# Altium footprint library EC20.PcbLib: 17 footprints (part 1 of 2)
Each footprint in its own frame and in the unit in brackets; x right, y up, seen from the top. Pads: shape width x height; smd on the part's side, far side on the other; paste and mask are expansions set on the pad; w line width, h text height; cw(c..) or ccw(c..) is an arc to the next point about the centre after c.
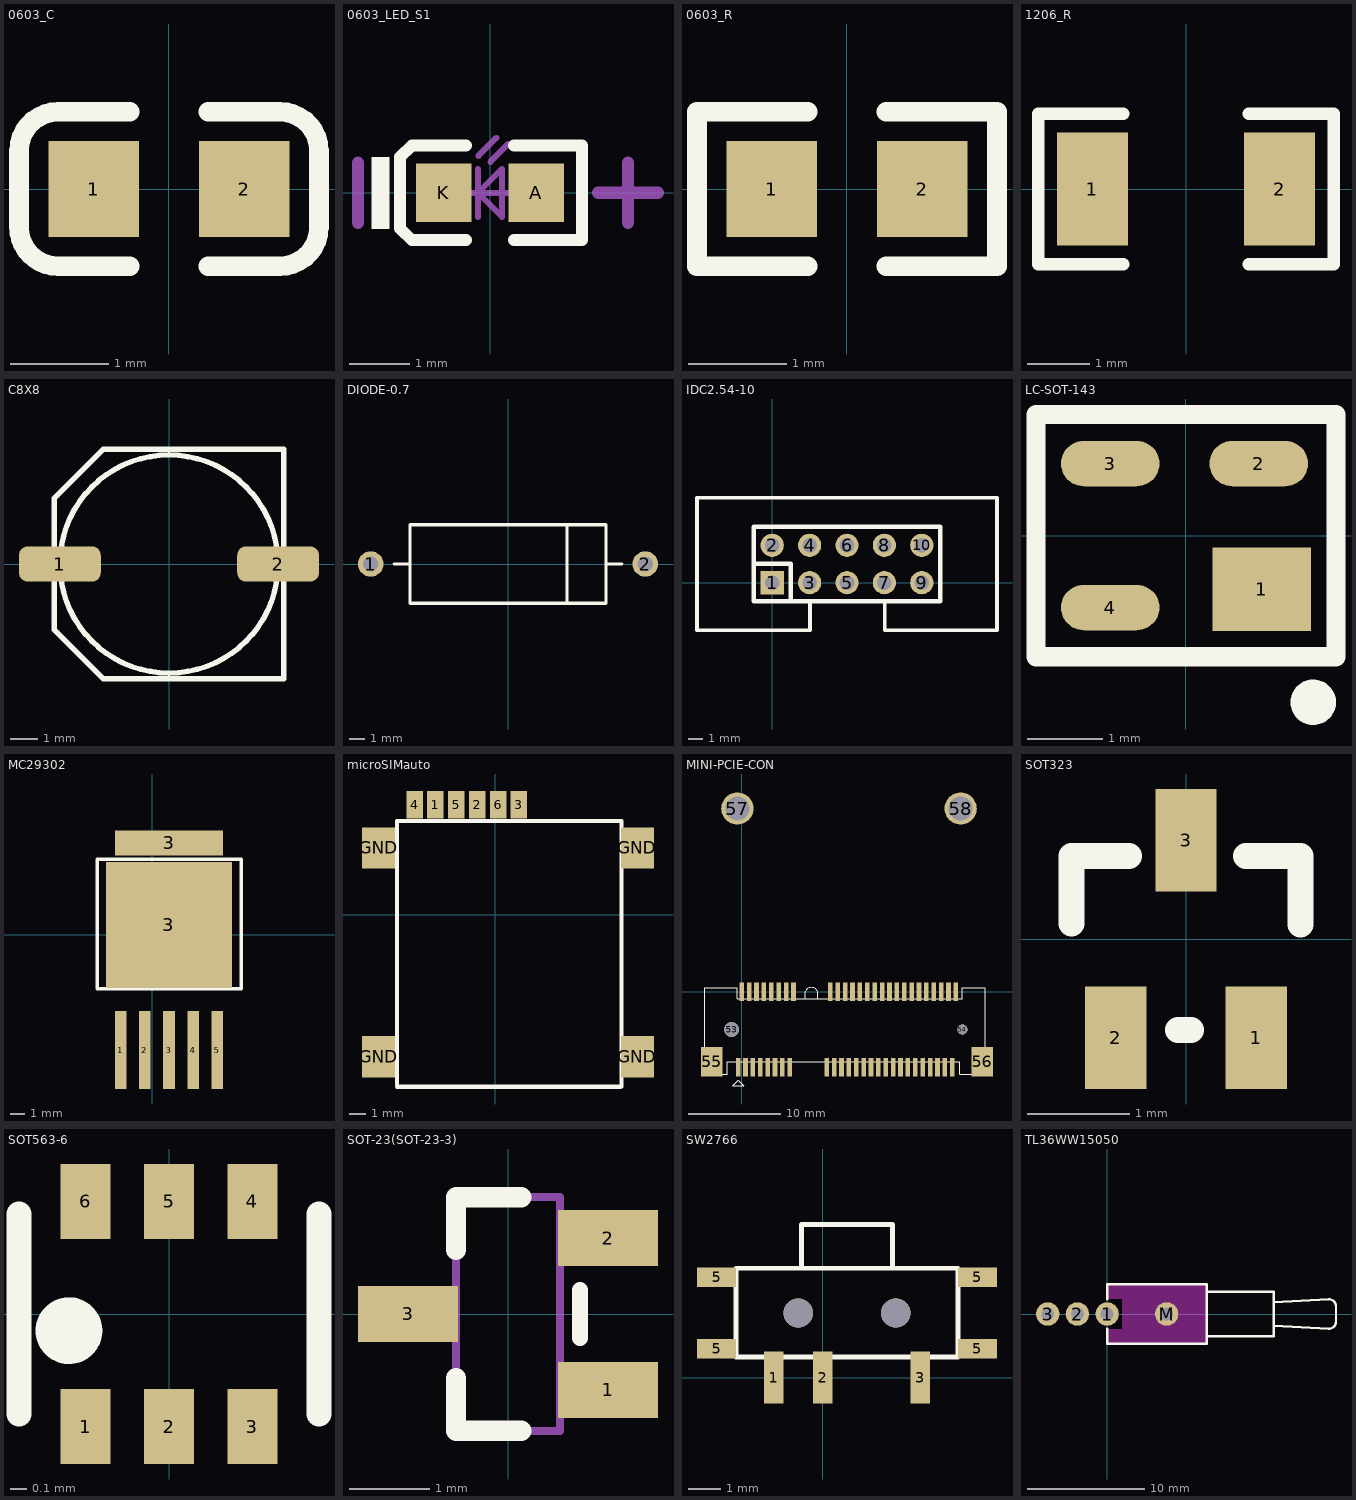
[diagram p0: the footprints below, top view; thin cyan lines are the x and y axes]

## 0603_C [mm]
pads (2):
  rect 0.93x0.98 smd: 1(-0.77,0) 2(0.77,0)
Top Overlay:
  lines w0.2: -0.4,-0.79 -1.135,-0.79 cw(c-1.135,-0.39) -1.535,-0.39 -1.535,0.39 cw(c-1.135,0.39) -1.135,0.79 -0.4,0.79 ; 0.4,-0.79 1.135,-0.79 ccw(c1.135,-0.39) 1.535,-0.39 1.535,0.39 ccw(c1.135,0.39) 1.135,0.79 0.4,0.79
3D body "User Library-0603 SMD Capacitor.STEP": height 0.3, standoff 0, extent -0.8,-0.4 0.8,0.4

## 0603_LED_S1 [mm]
pads (2):
  rect 0.93x0.98 smd: A(0.77,0) K(-0.77,0)
Top Overlay:
  rectangle: -1.975,-0.6 -1.675,0.6
  lines w0.2: -0.4,-0.79 -1.3,-0.79 -1.5,-0.597 -1.5,0.597 -1.3,0.79 -0.4,0.79 ; 0.4,-0.79 1.535,-0.79 1.535,0.79 0.4,0.79
Mechanical 13:
  lines w0.1: -0.4,0 0.4,0 ; -0.2,-0.4 -0.2,0.4 ; -0.195,0.617 0.105,0.917 ; 0.005,0.517 0.305,0.817 ; -0.2,0 0.2,-0.4 0.2,0.4 -0.2,0
Mechanical 15:
  lines w0.203: -2.2,-0.5 -2.2,0.5 ; 1.8,0 2.8,0 ; 2.3,-0.5 2.3,0.5
3D body "User Library-LED_0603_R.STEP": height 0.6, standoff 0, extent -0.8,-0.4 0.8,0.4

## 0603_R [mm]
pads (2):
  rect 0.93x0.98 smd: 1(-0.77,0) 2(0.77,0)
Top Overlay:
  lines w0.2: -0.4,-0.79 -1.535,-0.79 -1.535,0.79 -0.4,0.79 ; 0.4,-0.79 1.535,-0.79 1.535,0.79 0.4,0.79
3D body "User Library-RES_1609-0603.STEP": height 0.56, standoff 0, extent -0.85,-0.4 0.85,0.4

## 1206_R [mm]
pads (2):
  rect 1.13x1.8 smd: 1(-1.49,0) 2(1.49,0)
Top Overlay:
  lines w0.2: -1,-1.2 -2.355,-1.2 -2.355,1.2 -1,1.2 ; 1,-1.2 2.355,-1.2 2.355,1.2 1,1.2
3D body "User Library-RES_3216-1206.STEP": height 0.85, standoff 0, extent -1.7,-0.864 1.65,0.866

## C8X8 [mm]
height 10
pads (2):
  rrect50% 3x1.3 smd: 1(-4,0) 2(4,0)
Top Overlay:
  circle w0.2: c0,0 r4
  lines w0.2: -4.2,-2.413 -2.413,-4.2 4.2,-4.2 4.2,4.2 -2.413,4.2 -4.2,2.413 -4.2,-2.413
3D body "SL-H.step": height 10.5, standoff 0, extent -4.521,-4.216 4.479,4.084

## DIODE-0.7 [mm] "Diode, Thru-Hole; 2 Leads; 0.7 in Pin Spacing"
height 5.08
pads (2):
  round 1.65 hole 1: 1(-8.89,0) 2(8.89,0)
Top Overlay:
  lines w0.2: -7.366,0 -6.35,0 ; 3.81,-2.54 3.81,2.54 ; 6.35,0 7.366,0 ; -6.35,-2.54 -6.35,2.54 6.35,2.54 6.35,-2.54 -6.35,-2.54

## IDC2.54-10 [mil]
pads (10):
  rect 62x62 hole 39.37: 1(0,0)
  round 62 hole 39.37: 2(0,100) 3(100,0) 4(100,100) 5(200,0) 6(200,100) 7(300,0) 8(300,100) 9(400,0) 10(400,100)
Top Overlay:
  lines w10: 101,-50 101,-127.17 -201.18,-127.17 -201.18,227.16 601.18,227.16 ; 301,-50 301,-127.17 601.18,-127.17 ; 601,-127.33 601,227
  lines w12: -50,50 50,50 50,-50 ; -50,-50 -50,150 450,150 450,-50 -50,-50
3D body "SW3dPS-HDB-10.STEP": height 366.14, standoff -98.43, extent -196.64,-128.07 598.64,242

## LC-SOT-143 [mm]
pads (4):
  rect 1.3x1.1 smd: 1(1,-0.71)
  oval 1.3x0.6 smd: 2(0.96,0.95) 3(-1,0.95) 4(-1,-0.95)
Top Overlay:
  circle w0.3: c1.68,-2.2 r0.15
  lines w0.254: -1.98,-1.6 -1.98,1.6 1.98,1.6 1.98,-1.6 -1.98,-1.6
3D body "User Library-SOT-143.STEP": height 1, standoff 0, extent -1.23,-1.46 1.19,1.46

## MC29302 [mil]
pads (7):
  rect 32x216.54 smd: 1(-87.61,-320.81) 2(-20.61,-320.81) 3(46.39,-320.81) 4(113.39,-320.81) 5(180.39,-320.81)
  rect 350x350 smd: 3(46.35,27.2)
  rect 300x70 smd: 3(46.91,254.51)
Top Overlay:
  lines w10: -152.61,-151.05 247.39,-151.05 247.39,208.95 -152.61,208.95 -152.61,-151.05

## microSIMauto [mm]
pads (10):
  rect 1x1.65 smd: 1(-3.651,6.689) 2(-1.111,6.689) 3(1.429,6.689) 4(-4.921,6.689) 5(-2.381,6.689) 6(0.159,6.689)
  rect 2x2.5 smd: GND(-7.112,-8.636) GND(-7.112,4.064) GND(8.636,-8.636) GND(8.636,4.064)
Top Overlay:
  lines w0.254: -5.998,-10.325 -5.998,5.705 7.66,5.705 ; -5.991,-10.465 7.614,-10.465 ; 7.672,-10.449 7.672,5.692

## MINI-PCIE-CON [mm]
pads (58):
  rect 0.5x2 smd mask+0.05: 1(-0.4,-8.2) 2(0,0) 3(0.4,-8.2) 4(0.8,0) 5(1.2,-8.2) 6(1.6,0) 7(2,-8.2) 8(2.4,0) 9(2.8,-8.2) 10(3.2,0) 11(3.6,-8.2) 12(4,0) 13(4.4,-8.2) 14(4.8,0) 15(5.2,-8.2) 16(5.6,0) 17(9.2,-8.2) 18(9.6,0) 19(10,-8.2) 20(10.4,0) 21(10.8,-8.2) 22(11.2,0) 23(11.6,-8.2) 24(12,0) 25(12.4,-8.2) 26(12.8,0) 27(13.2,-8.2) 28(13.6,0) 29(14,-8.2) 30(14.4,0) 31(14.8,-8.2) 32(15.2,0) 33(15.6,-8.2) 34(16,0) 35(16.4,-8.2) 36(16.8,0) 37(17.2,-8.2) 38(17.6,0) 39(18,-8.2) 40(18.4,0) 41(18.8,-8.2) 42(19.2,0) 43(19.6,-8.2) 44(20,0) 45(20.4,-8.2) 46(20.8,0) 47(21.2,-8.2) 48(21.6,0) 49(22,-8.2) 50(22.4,0) 51(22.8,-8.2) 52(23.2,0)
  round 1.6 hole 1.6 unplated: 53(-1.1,-4.1)
  round 1.1 hole 1.1 unplated: 54(23.9,-4.1)
  rect 2.3x3.2 smd mask+0.05: 55(-3.25,-7.6) 56(26.05,-7.6)
  round 3.5 hole 2.6: 57(-0.483,19.836) 58(23.717,19.836)
Top Overlay:
  lines w0.1: -4.03,-8.55 -4.03,-8.97 -1.6,-8.97 -1.6,-7.57 23.6,-7.57 23.6,-8.97 26.38,-8.97 26.38,-8.55 ; -4.03,-6.66 -4.03,0.42 -0.5,0.42 -0.5,-0.79 23.9,-0.79 23.9,0.42 26.38,0.42 26.38,-6.68 ; 6.875,-0.72 6.875,0.013 cw(c7.55,-0.268) 8.225,0.013 8.225,-0.75 ; -0.98,-10.17 -0.38,-9.57 0.205,-10.17 -0.98,-10.17

## SOT323 [mm]
pads (3):
  rect 0.6x1 smd: 1(0.686,-0.965) 2(-0.686,-0.965) 3(0,0.965)
Top Overlay:
  lines w0.254: -1.118,0.152 -1.118,0.813 -0.559,0.813 ; -0.076,-0.889 0.051,-0.889 ; 0.584,0.813 1.118,0.813 1.118,0.143
3D body "SOT323 (SC70-3)-1.STEP": height 1.1, standoff 0, extent -1.092,-1.097 1.108,1.148

## SOT563-6 [mm]
pads (6):
  rect 0.3x0.45 smd: 1(-0.5,-0.675) 2(0,-0.675) 3(0.5,-0.675) 4(0.5,0.675) 5(0,0.675) 6(-0.5,0.675)
Top Overlay:
  circle w0.2: c-0.6,-0.1 r0.1
  lines w0.15: -0.9,-0.6 -0.9,0.6 ; 0.9,-0.6 0.9,0.6
3D body "SW3dPS-SOT-563.STEP": height 0.58, standoff 0, extent -0.8,-0.8 0.8,0.826

## SOT-23(SOT-23-3) [mm]
pads (3):
  rect 1.25x0.7 smd: 1(1.25,-0.95) 2(1.25,0.95) 3(-1.25,0)
Top Overlay:
  lines w0.2: 0.9,-0.3 0.9,0.3
  lines w0.254: -0.65,-0.8 -0.65,-1.46 0.165,-1.46 ; 0.165,1.46 -0.65,1.46 ; -0.65,0.8 -0.65,1.46 ; -0.65,0.8 -0.65,1.46 ; -0.65,0.8 -0.65,1.46
Mechanical 13:
  lines w0.1: -0.65,-1.46 -0.65,1.46 ; -0.65,-1.46 0.65,-1.46 ; -0.65,-1.46 -0.65,1.46 ; -0.65,-1.46 0.65,-1.46 ; -0.65,-1.46 0.65,-1.46 ; -0.65,-1.46 -0.65,1.46 ; -0.65,1.46 0.65,1.46 ; -0.65,1.46 0.65,1.46 ; -0.65,1.46 0.65,1.46 ; 0.65,-1.46 0.65,1.46 ; 0.65,-1.46 0.65,1.46 ; 0.65,-1.46 0.65,1.46
3D body "SOT-23.step": height 1.3, standoff 0, extent -1.5,-1.5 1.5,1.5

## SW2766 [mm]
pads (7):
  rect 0.6x1.6 smd: 1(-1.5,0) 2(0,0) 3(3,0)
  rect 1.2x0.6 smd: 5(-3.25,0.881) 5(-3.25,3.081) 5(4.75,0.881) 5(4.75,3.081)
via 2.25,1.981 diameter 0.9 hole 0.9
via -0.75,1.981 diameter 0.9 hole 0.9
Top Overlay:
  lines w0.152: -2.65,3.331 -2.65,0.631 4.15,0.631 4.15,3.331 ; -2.65,3.353 4.15,3.353 ; -0.65,3.404 -0.65,4.699 2.15,4.699 ; 2.149,3.378 2.149,4.674
3D body "MiniSwitch.step": height 1.4, standoff -0.5, extent -3.1,-0.274 4.6,4.526

## TL36WW15050 [mm] "Switch; 4 Leads"
pads (4):
  round 2 hole 1.1: 1(0,0) 2(-2.54,0) 3(-5.08,0) M(5.08,0)
Top Layer keep-out:
  region: 0,-1.27 0,-2.54 1.27,-2.54 1.27,-1.27
  region: 0,2.54 0,1.27 1.27,1.27 1.27,2.54
  region: 1.27,2.54 1.27,-2.54 8.509,-2.54 8.509,2.54
Top Overlay:
  lines w0.2: 0,-1.27 0,-2.54 8.509,-2.54 8.509,2.54 0,2.54 0,1.27 ; 8.509,-1.905 14.224,-1.905 14.224,1.905 8.509,1.905 ; 14.224,-1.016 18.923,-1.27 ccw(c18.923,-0.635) 19.558,-0.635 19.558,0.635 ccw(c18.923,0.635) 18.923,1.27 14.224,1.016